# Altium integrated library TI_Logic_Specialty_Logic.IntLib: 2504 symbols (part 78 of 81)
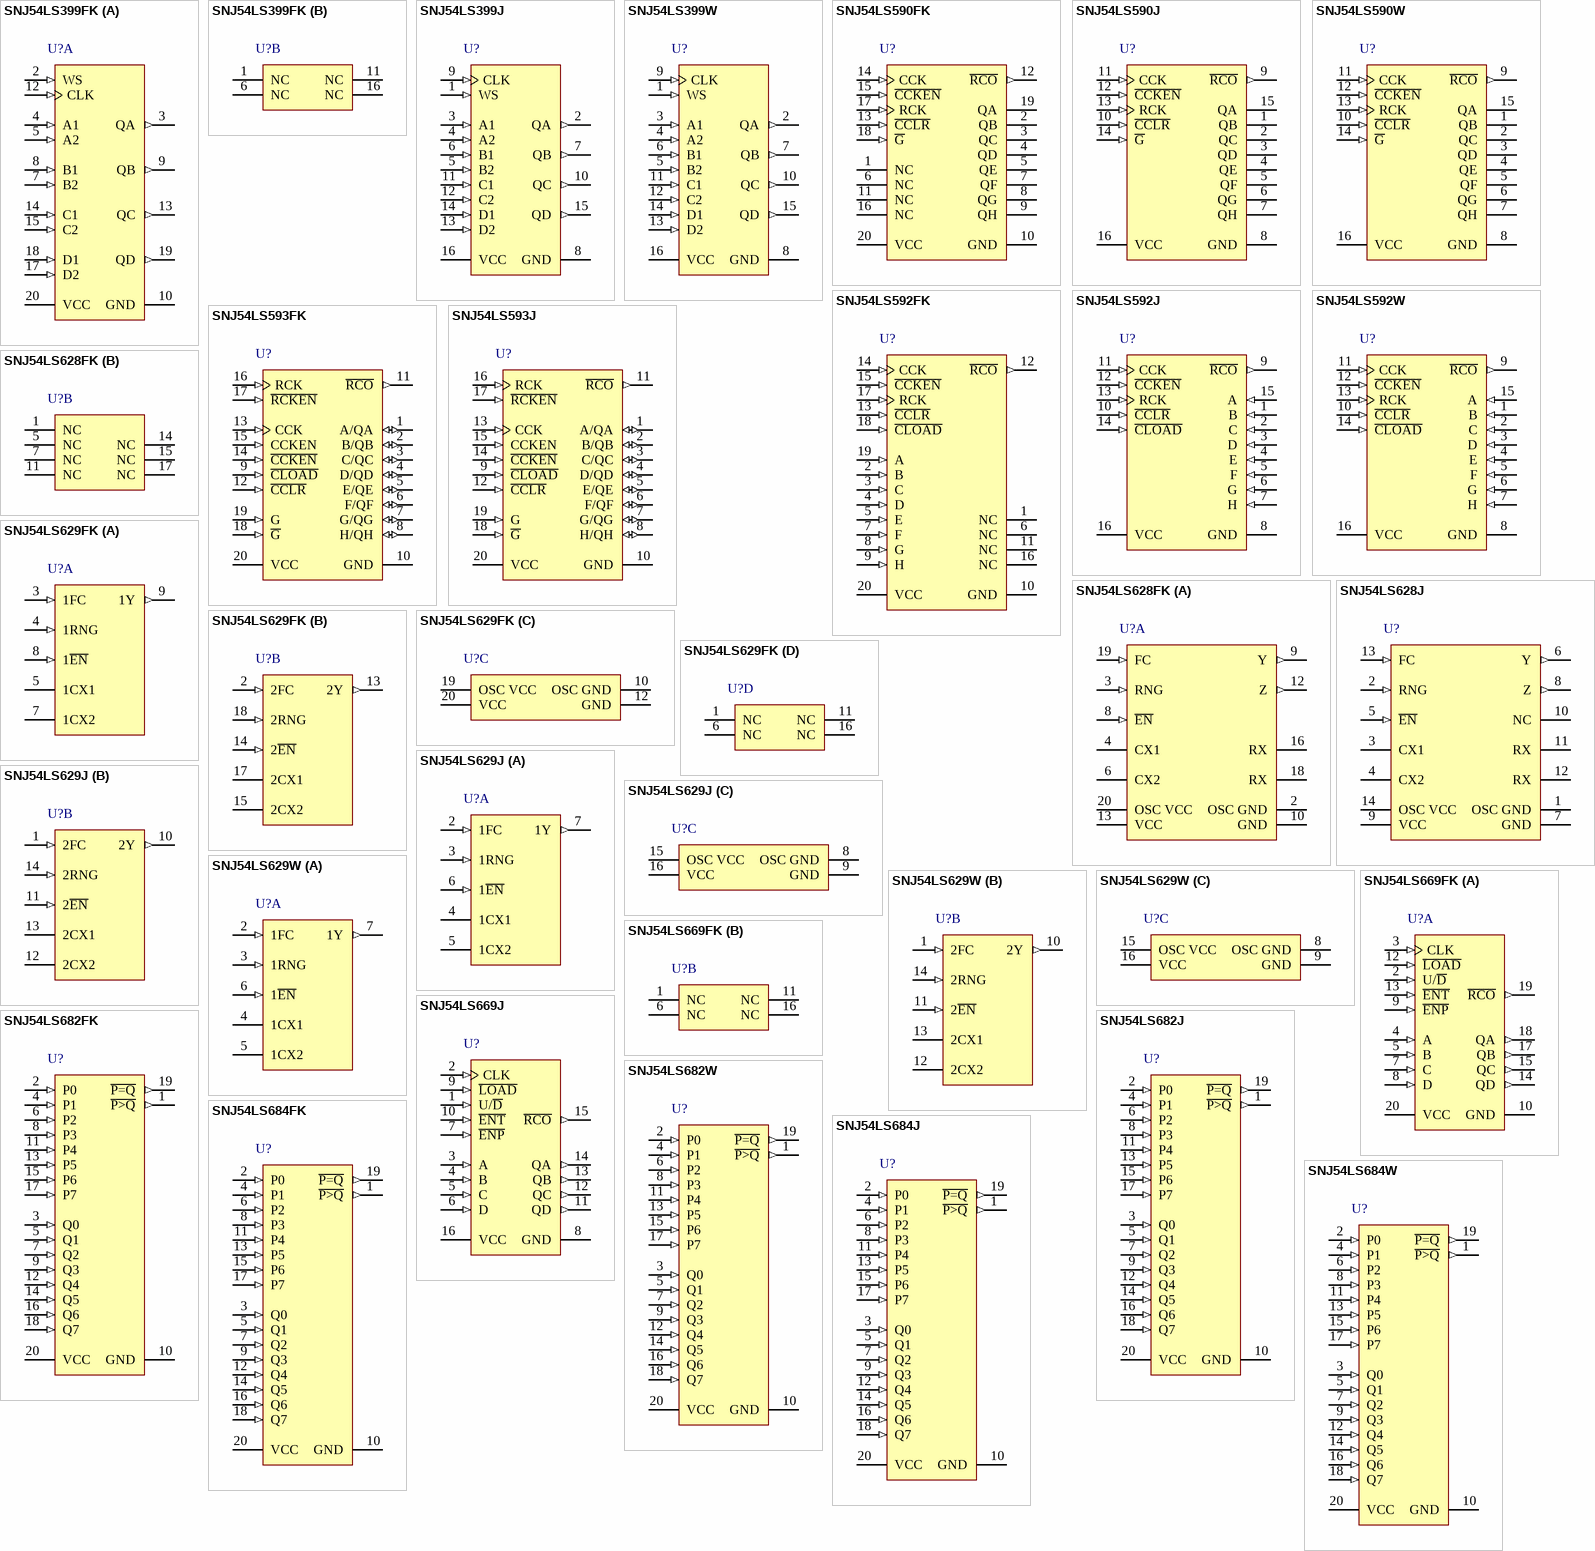
[diagram p181: symbols SNJ54LS399FK to SNJ54LS684W]

## SNJ54LS682FK
designator U?
8-Bit Identity/Magnitude Comparators, FK0020A, TUBE; Generic Part Number: SN54LS682; Manufacturer: Texas Instruments; PartNumber: SNJ54LS682FK; VCC(Min)(V): 4.85; VCC(Max)(V): 5.25; Output Type: TTL; ICC @ Nom Voltage(Max)(mA): 70; Bits(#): 8; Rating: Military; Technology Family: LS; Output Drive (IOL/IOH)(Max)(mA): 24/-0.4; tpd @ Nom Voltage(Max)(ns): 30; DatasheetVersion: SDLS008; PackageReference: FK0020A; Input Type: TTL; Operating Temperature Range(C): -55 to 125; Code_JEDEC: MS-004; ComponentLink1Description: Manufacturer URL; ComponentLink1URL: http://www.ti.com/; ComponentLink2Description: Datasheet; ComponentLink2URL: http://www.ti.com/lit/ds/symlink/sn54ls682.pdf; ComponentLink3Description: Package Specification; ComponentLink3URL: http://www.ti.com/lit/ml/mlcc006d/mlcc006d.pdf
footprint FK0020A_N (LCC, 20-Leads, Body 8.9x8.9mm, Pitch 1.27mm, IPC Medium Density)
footprint FK0020A_M (LCC, 20-Leads, Body 8.9x8.9mm, Pitch 1.27mm, IPC Low Density)
footprint FK0020A_L (LCC, 20-Leads, Body 8.9x8.9mm, Pitch 1.27mm, IPC High Density)
pins: 1 ~{P>Q} (out), 2 P0 (in), 3 Q0 (in), 4 P1 (in), 5 Q1 (in), 6 P2 (in), 7 Q2 (in), 8 P3 (in), 9 Q3 (in), 10 GND (power), 11 P4 (in), 12 Q4 (in), 13 P5 (in), 14 Q5 (in), 15 P6 (in), 16 Q6 (in), 17 P7 (in), 18 Q7 (in), 19 ~{P=Q} (out), 20 VCC (power)

## SNJ54LS682J
designator U?
8-Bit Identity/Magnitude Comparators, J0020A, TUBE; Generic Part Number: SN54LS682; Manufacturer: Texas Instruments; PartNumber: SNJ54LS682J; VCC(Min)(V): 4.85; VCC(Max)(V): 5.25; Output Type: TTL; ICC @ Nom Voltage(Max)(mA): 70; Bits(#): 8; Rating: Military; Technology Family: LS; Output Drive (IOL/IOH)(Max)(mA): 24/-0.4; tpd @ Nom Voltage(Max)(ns): 30; DatasheetVersion: SDLS008; PackageReference: J0020A; Input Type: TTL; Operating Temperature Range(C): -55 to 125; ComponentLink1Description: Manufacturer URL; ComponentLink1URL: http://www.ti.com/; ComponentLink2Description: Datasheet; ComponentLink2URL: http://www.ti.com/lit/ds/symlink/sn54ls682.pdf
footprint J0020A (DIP, 20-Leads, Body 26.9x7.2mm, Pitch 2.54mm)
pins: 1 ~{P>Q} (out), 2 P0 (in), 3 Q0 (in), 4 P1 (in), 5 Q1 (in), 6 P2 (in), 7 Q2 (in), 8 P3 (in), 9 Q3 (in), 10 GND (power), 11 P4 (in), 12 Q4 (in), 13 P5 (in), 14 Q5 (in), 15 P6 (in), 16 Q6 (in), 17 P7 (in), 18 Q7 (in), 19 ~{P=Q} (out), 20 VCC (power)

## SNJ54LS682W
designator U?
8-Bit Identity/Magnitude Comparators, W0020A, TUBE; Generic Part Number: SN54LS682; Manufacturer: Texas Instruments; PartNumber: SNJ54LS682W; VCC(Min)(V): 4.85; VCC(Max)(V): 5.25; Output Type: TTL; ICC @ Nom Voltage(Max)(mA): 70; Bits(#): 8; Rating: Military; Technology Family: LS; Output Drive (IOL/IOH)(Max)(mA): 24/-0.4; tpd @ Nom Voltage(Max)(ns): 30; DatasheetVersion: SDLS008; PackageReference: W0020A; Input Type: TTL; Operating Temperature Range(C): -55 to 125; ComponentLink1Description: Manufacturer URL; ComponentLink1URL: http://www.ti.com/; ComponentLink2Description: Datasheet; ComponentLink2URL: http://www.ti.com/lit/ds/symlink/sn54ls682.pdf
footprint W0020A_N (CFP, 20-Leads, Body 13.72x7.62mm, Pitch 1.27mm, IPC Medium Density)
footprint W0020A_M (CFP, 20-Leads, Body 13.72x7.62mm, Pitch 1.27mm, IPC Low Density)
footprint W0020A_L (CFP, 20-Leads, Body 13.72x7.62mm, Pitch 1.27mm, IPC High Density)
pins: 1 ~{P>Q} (out), 2 P0 (in), 3 Q0 (in), 4 P1 (in), 5 Q1 (in), 6 P2 (in), 7 Q2 (in), 8 P3 (in), 9 Q3 (in), 10 GND (power), 11 P4 (in), 12 Q4 (in), 13 P5 (in), 14 Q5 (in), 15 P6 (in), 16 Q6 (in), 17 P7 (in), 18 Q7 (in), 19 ~{P=Q} (out), 20 VCC (power)

## SNJ54LS684FK
designator U?
8-Bit Identity/Magnitude Comparators, FK0020A, TUBE; Generic Part Number: SN54LS684; Manufacturer: Texas Instruments; PartNumber: SNJ54LS684FK; VCC(Min)(V): 4.85; VCC(Max)(V): 5.25; Output Type: TTL; ICC @ Nom Voltage(Max)(mA): 65; Bits(#): 8; Rating: Military; Technology Family: LS; Output Drive (IOL/IOH)(Max)(mA): 24/-0.4; tpd @ Nom Voltage(Max)(ns): 30; DatasheetVersion: SDLS008; PackageReference: FK0020A; Input Type: TTL; Operating Temperature Range(C): -55 to 125; Code_JEDEC: MS-004; ComponentLink1Description: Manufacturer URL; ComponentLink1URL: http://www.ti.com/; ComponentLink2Description: Datasheet; ComponentLink2URL: http://www.ti.com/lit/ds/symlink/sn54ls684.pdf; ComponentLink3Description: Package Specification; ComponentLink3URL: http://www.ti.com/lit/ml/mlcc006d/mlcc006d.pdf
footprint FK0020A_N (LCC, 20-Leads, Body 8.9x8.9mm, Pitch 1.27mm, IPC Medium Density)
footprint FK0020A_M (LCC, 20-Leads, Body 8.9x8.9mm, Pitch 1.27mm, IPC Low Density)
footprint FK0020A_L (LCC, 20-Leads, Body 8.9x8.9mm, Pitch 1.27mm, IPC High Density)
pins: 1 ~{P>Q} (out), 2 P0 (in), 3 Q0 (in), 4 P1 (in), 5 Q1 (in), 6 P2 (in), 7 Q2 (in), 8 P3 (in), 9 Q3 (in), 10 GND (power), 11 P4 (in), 12 Q4 (in), 13 P5 (in), 14 Q5 (in), 15 P6 (in), 16 Q6 (in), 17 P7 (in), 18 Q7 (in), 19 ~{P=Q} (out), 20 VCC (power)

## SNJ54LS684J
designator U?
8-Bit Identity/Magnitude Comparators, J0020A, TUBE; Generic Part Number: SN54LS684; Manufacturer: Texas Instruments; PartNumber: SNJ54LS684J; VCC(Min)(V): 4.85; VCC(Max)(V): 5.25; Output Type: TTL; ICC @ Nom Voltage(Max)(mA): 65; Bits(#): 8; Rating: Military; Technology Family: LS; Output Drive (IOL/IOH)(Max)(mA): 24/-0.4; tpd @ Nom Voltage(Max)(ns): 30; DatasheetVersion: SDLS008; PackageReference: J0020A; Input Type: TTL; Operating Temperature Range(C): -55 to 125; ComponentLink1Description: Manufacturer URL; ComponentLink1URL: http://www.ti.com/; ComponentLink2Description: Datasheet; ComponentLink2URL: http://www.ti.com/lit/ds/symlink/sn54ls684.pdf
footprint J0020A (DIP, 20-Leads, Body 26.9x7.2mm, Pitch 2.54mm)
pins: 1 ~{P>Q} (out), 2 P0 (in), 3 Q0 (in), 4 P1 (in), 5 Q1 (in), 6 P2 (in), 7 Q2 (in), 8 P3 (in), 9 Q3 (in), 10 GND (power), 11 P4 (in), 12 Q4 (in), 13 P5 (in), 14 Q5 (in), 15 P6 (in), 16 Q6 (in), 17 P7 (in), 18 Q7 (in), 19 ~{P=Q} (out), 20 VCC (power)

## SNJ54LS684W
designator U?
8-Bit Identity/Magnitude Comparators, W0020A, TUBE; Generic Part Number: SN54LS684; Manufacturer: Texas Instruments; PartNumber: SNJ54LS684W; VCC(Min)(V): 4.85; VCC(Max)(V): 5.25; Output Type: TTL; ICC @ Nom Voltage(Max)(mA): 65; Bits(#): 8; Rating: Military; Technology Family: LS; Output Drive (IOL/IOH)(Max)(mA): 24/-0.4; tpd @ Nom Voltage(Max)(ns): 30; DatasheetVersion: SDLS008; PackageReference: W0020A; Input Type: TTL; Operating Temperature Range(C): -55 to 125; ComponentLink1Description: Manufacturer URL; ComponentLink1URL: http://www.ti.com/; ComponentLink2Description: Datasheet; ComponentLink2URL: http://www.ti.com/lit/ds/symlink/sn54ls684.pdf
footprint W0020A_N (CFP, 20-Leads, Body 13.72x7.62mm, Pitch 1.27mm, IPC Medium Density)
footprint W0020A_M (CFP, 20-Leads, Body 13.72x7.62mm, Pitch 1.27mm, IPC Low Density)
footprint W0020A_L (CFP, 20-Leads, Body 13.72x7.62mm, Pitch 1.27mm, IPC High Density)
pins: 1 ~{P>Q} (out), 2 P0 (in), 3 Q0 (in), 4 P1 (in), 5 Q1 (in), 6 P2 (in), 7 Q2 (in), 8 P3 (in), 9 Q3 (in), 10 GND (power), 11 P4 (in), 12 Q4 (in), 13 P5 (in), 14 Q5 (in), 15 P6 (in), 16 Q6 (in), 17 P7 (in), 18 Q7 (in), 19 ~{P=Q} (out), 20 VCC (power)

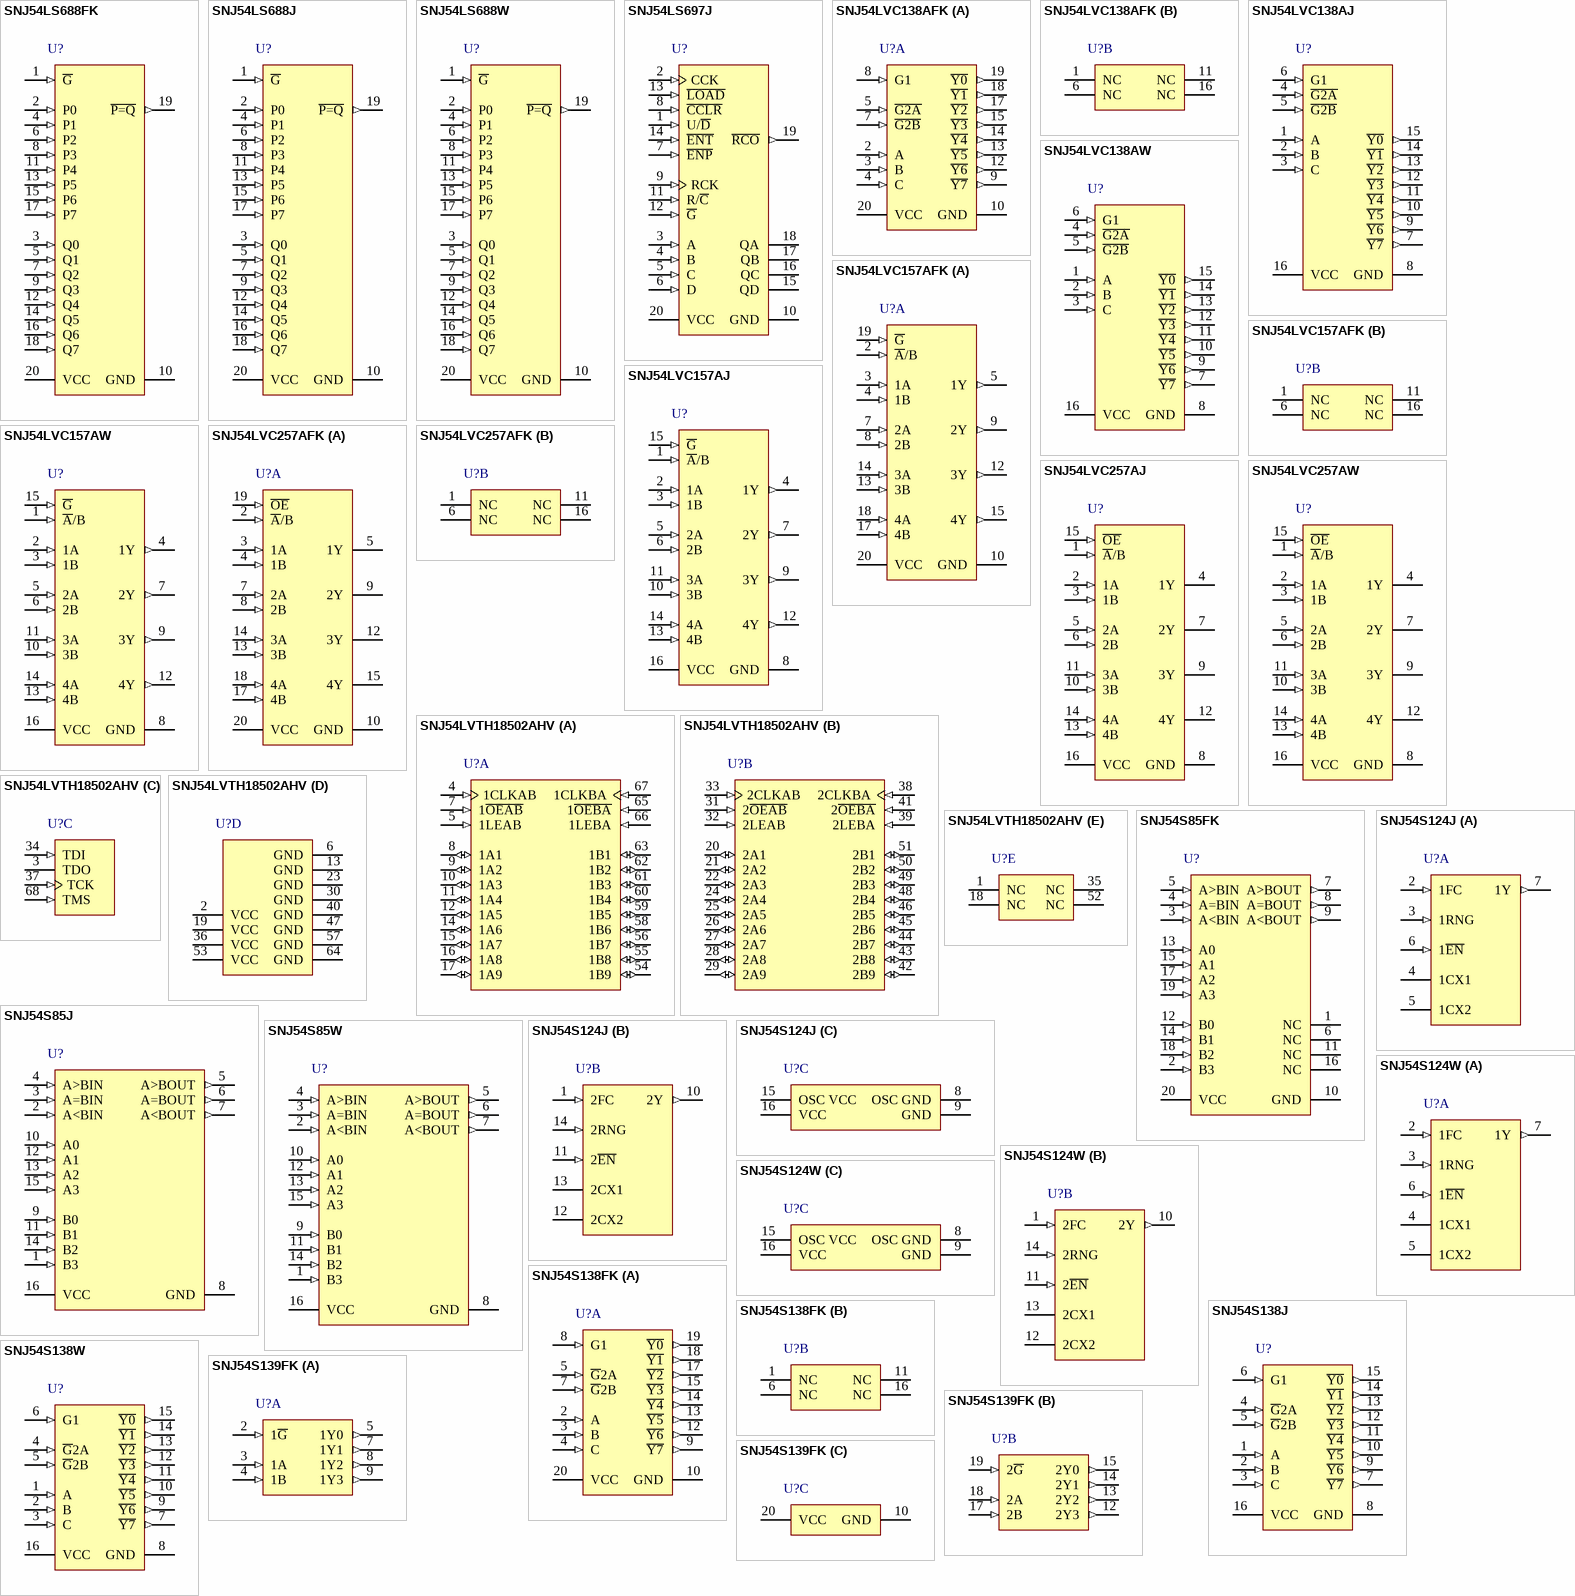
[diagram p98: symbols SNJ54LS688FK to SNJ54S139FK]

## SNJ54LS688FK
designator U?
8-Bit Identity/Magnitude Comparators (P=Q) with Enable, FK0020A, TUBE; Generic Part Number: SN54LS688; Manufacturer: Texas Instruments; PartNumber: SNJ54LS688FK; VCC(Min)(V): 4.85; VCC(Max)(V): 5.25; Output Type: TTL; ICC @ Nom Voltage(Max)(mA): 65; Bits(#): 8; Rating: Military; Technology Family: LS; Output Drive (IOL/IOH)(Max)(mA): 24/-0.4; tpd @ Nom Voltage(Max)(ns): 23; DatasheetVersion: SDLS008; PackageReference: FK0020A; Input Type: TTL; Operating Temperature Range(C): -55 to 125; Code_JEDEC: MS-004; ComponentLink1Description: Manufacturer URL; ComponentLink1URL: http://www.ti.com/; ComponentLink2Description: Datasheet; ComponentLink2URL: http://www.ti.com/lit/ds/symlink/sn54ls688.pdf; ComponentLink3Description: Package Specification; ComponentLink3URL: http://www.ti.com/lit/ml/mlcc006d/mlcc006d.pdf
footprint FK0020A_N (LCC, 20-Leads, Body 8.9x8.9mm, Pitch 1.27mm, IPC Medium Density)
footprint FK0020A_M (LCC, 20-Leads, Body 8.9x8.9mm, Pitch 1.27mm, IPC Low Density)
footprint FK0020A_L (LCC, 20-Leads, Body 8.9x8.9mm, Pitch 1.27mm, IPC High Density)
pins: 1 ~{G} (in), 2 P0 (in), 3 Q0 (in), 4 P1 (in), 5 Q1 (in), 6 P2 (in), 7 Q2 (in), 8 P3 (in), 9 Q3 (in), 10 GND (power), 11 P4 (in), 12 Q4 (in), 13 P5 (in), 14 Q5 (in), 15 P6 (in), 16 Q6 (in), 17 P7 (in), 18 Q7 (in), 19 ~{P=Q} (out), 20 VCC (power)

## SNJ54LS688J
designator U?
8-Bit Identity/Magnitude Comparators (P=Q) with Enable, J0020A, TUBE; Generic Part Number: SN54LS688; Manufacturer: Texas Instruments; PartNumber: SNJ54LS688J; VCC(Min)(V): 4.85; VCC(Max)(V): 5.25; Output Type: TTL; ICC @ Nom Voltage(Max)(mA): 65; Bits(#): 8; Rating: Military; Technology Family: LS; Output Drive (IOL/IOH)(Max)(mA): 24/-0.4; tpd @ Nom Voltage(Max)(ns): 23; DatasheetVersion: SDLS008; PackageReference: J0020A; Input Type: TTL; Operating Temperature Range(C): -55 to 125; ComponentLink1Description: Manufacturer URL; ComponentLink1URL: http://www.ti.com/; ComponentLink2Description: Datasheet; ComponentLink2URL: http://www.ti.com/lit/ds/symlink/sn54ls688.pdf
footprint J0020A (DIP, 20-Leads, Body 26.9x7.2mm, Pitch 2.54mm)
pins: 1 ~{G} (in), 2 P0 (in), 3 Q0 (in), 4 P1 (in), 5 Q1 (in), 6 P2 (in), 7 Q2 (in), 8 P3 (in), 9 Q3 (in), 10 GND (power), 11 P4 (in), 12 Q4 (in), 13 P5 (in), 14 Q5 (in), 15 P6 (in), 16 Q6 (in), 17 P7 (in), 18 Q7 (in), 19 ~{P=Q} (out), 20 VCC (power)

## SNJ54LS688W
designator U?
8-Bit Identity/Magnitude Comparators (P=Q) with Enable, W0020A, TUBE; Generic Part Number: SN54LS688; Manufacturer: Texas Instruments; PartNumber: SNJ54LS688W; VCC(Min)(V): 4.85; VCC(Max)(V): 5.25; Output Type: TTL; ICC @ Nom Voltage(Max)(mA): 65; Bits(#): 8; Rating: Military; Technology Family: LS; Output Drive (IOL/IOH)(Max)(mA): 24/-0.4; tpd @ Nom Voltage(Max)(ns): 23; DatasheetVersion: SDLS008; PackageReference: W0020A; Input Type: TTL; Operating Temperature Range(C): -55 to 125; ComponentLink1Description: Manufacturer URL; ComponentLink1URL: http://www.ti.com/; ComponentLink2Description: Datasheet; ComponentLink2URL: http://www.ti.com/lit/ds/symlink/sn54ls688.pdf
footprint W0020A_N (CFP, 20-Leads, Body 13.72x7.62mm, Pitch 1.27mm, IPC Medium Density)
footprint W0020A_M (CFP, 20-Leads, Body 13.72x7.62mm, Pitch 1.27mm, IPC Low Density)
footprint W0020A_L (CFP, 20-Leads, Body 13.72x7.62mm, Pitch 1.27mm, IPC High Density)
pins: 1 ~{G} (in), 2 P0 (in), 3 Q0 (in), 4 P1 (in), 5 Q1 (in), 6 P2 (in), 7 Q2 (in), 8 P3 (in), 9 Q3 (in), 10 GND (power), 11 P4 (in), 12 Q4 (in), 13 P5 (in), 14 Q5 (in), 15 P6 (in), 16 Q6 (in), 17 P7 (in), 18 Q7 (in), 19 ~{P=Q} (out), 20 VCC (power)

## SNJ54LS697J
designator U?
Synchronous Up/Down Counters With Output Registers And Multiplexed 3-State Outpu, J0020A, TUBE; Generic Part Number: SN54LS697; Manufacturer: Texas Instruments; PartNumber: SNJ54LS697J; VCC(Min)(V): 4.75; VCC(Max)(V): 5.25; Inputs: 1; ICC @ Nom Voltage(Max)(mA): 70; Bits(#): 4; F @ Nom Voltage(Max)(Mhz): 35; Rating: Military; Technology Family: LS; Output Drive (IOL/IOH)(Max)(mA): 24/-2.6; tpd @ Nom Voltage(Max)(ns): 40; DatasheetVersion: SDLS199; PackageReference: J0020A; Function: Counter; Operating Temperature Range(C): -55 to 125; Type: Binary; ComponentLink1Description: Manufacturer URL; ComponentLink1URL: http://www.ti.com/; ComponentLink2Description: Datasheet; ComponentLink2URL: http://www.ti.com/lit/ds/symlink/sn54ls697.pdf; ComponentLink3Description: Package Specification; ComponentLink3URL: http://www.ti.com/lit/ml/mcer002d/mcer002d.pdf
footprint J0020A (DIP, 20-Leads, Body 26.9x7.2mm, Pitch 2.54mm)
pins: 1 U/~{D} (in), 2 CCK (in), 3 A (in), 4 B (in), 5 C (in), 6 D (in), 7 ~{ENP} (in), 8 ~{CCLR} (in), 9 RCK (in), 10 GND (power), 11 R/~{C} (in), 12 ~{G} (in), 13 ~{LOAD} (in), 14 ~{ENT} (in), 15 QD (hiz), 16 QC (hiz), 17 QB (hiz), 18 QA (hiz), 19 ~{RCO} (out), 20 VCC (power)

## SNJ54LVC138AFK
designator U?
3-Line To 8-Line Decoder/Demultiplexer, FK0020A, TUBE; Generic Part Number: SN54LVC138A; Manufacturer: Texas Instruments; PartNumber: SNJ54LVC138AFK; VCC(Min)(V): 2; VCC(Max)(V): 3.6; ICC @ Nom Voltage(Max)(mA): 0.01; F @ Nom Voltage(Max)(Mhz): 100; Rating: Military; Technology Family: LVC; Voltage(Nom)(V): 2.7,3.3; Schmitt Trigger: No; Output Drive (IOL/IOH)(Max)(mA): 24/-24; tpd @ Nom Voltage(Max)(ns): 7.9,6.7; DatasheetVersion: SCAS291V; PackageReference: FK0020A; Operating Temperature Range(C): -55 to 125; Code_JEDEC: MS-004; ComponentLink1Description: Manufacturer URL; ComponentLink1URL: http://www.ti.com/; ComponentLink2Description: Datasheet; ComponentLink2URL: http://www.ti.com/lit/ds/symlink/sn54lvc138a.pdf; ComponentLink3Description: Package Specification; ComponentLink3URL: http://www.ti.com/lit/ml/mlcc006d/mlcc006d.pdf
footprint FK0020A_N (LCC, 20-Leads, Body 8.9x8.9mm, Pitch 1.27mm, IPC Medium Density)
footprint FK0020A_M (LCC, 20-Leads, Body 8.9x8.9mm, Pitch 1.27mm, IPC Low Density)
footprint FK0020A_L (LCC, 20-Leads, Body 8.9x8.9mm, Pitch 1.27mm, IPC High Density)
part A pins: 2 A (in), 3 B (in), 4 C (in), 5 ~{G2A} (in), 7 ~{G2B} (in), 8 G1 (in), 9 ~{Y7} (out), 10 GND (power), 12 ~{Y6} (out), 13 ~{Y5} (out), 14 ~{Y4} (out), 15 ~{Y3} (out), 17 ~{Y2} (out), 18 ~{Y1} (out), 19 ~{Y0} (out), 20 VCC (power)
part B pins: 1 NC, 6 NC, 11 NC, 16 NC

## SNJ54LVC138AJ
designator U?
3-Line To 8-Line Decoder/Demultiplexer, J0016A, TUBE; Generic Part Number: SN54LVC138A; Manufacturer: Texas Instruments; PartNumber: SNJ54LVC138AJ; VCC(Min)(V): 2; VCC(Max)(V): 3.6; ICC @ Nom Voltage(Max)(mA): 0.01; F @ Nom Voltage(Max)(Mhz): 100; Rating: Military; Technology Family: LVC; Voltage(Nom)(V): 2.7,3.3; Schmitt Trigger: No; Output Drive (IOL/IOH)(Max)(mA): 24/-24; tpd @ Nom Voltage(Max)(ns): 7.9,6.7; DatasheetVersion: SCAS291V; PackageReference: J0016A; Operating Temperature Range(C): -55 to 125; ComponentLink1Description: Manufacturer URL; ComponentLink1URL: http://www.ti.com/; ComponentLink2Description: Datasheet; ComponentLink2URL: http://www.ti.com/lit/ds/symlink/sn54lvc138a.pdf; ComponentLink3Description: Package Specification; ComponentLink3URL: http://www.ti.com/lit/ml/mcer002d/mcer002d.pdf
footprint J0016A (DIP, 16-Leads, Body 21.35x7.2mm, Pitch 2.54mm)
pins: 1 A (in), 2 B (in), 3 C (in), 4 ~{G2A} (in), 5 ~{G2B} (in), 6 G1 (in), 7 ~{Y7} (out), 8 GND (power), 9 ~{Y6} (out), 10 ~{Y5} (out), 11 ~{Y4} (out), 12 ~{Y3} (out), 13 ~{Y2} (out), 14 ~{Y1} (out), 15 ~{Y0} (out), 16 VCC (power)

## SNJ54LVC138AW
designator U?
3-Line To 8-Line Decoder/Demultiplexer, W0016A, TUBE; Generic Part Number: SN54LVC138A; Manufacturer: Texas Instruments; PartNumber: SNJ54LVC138AW; VCC(Min)(V): 2; VCC(Max)(V): 3.6; ICC @ Nom Voltage(Max)(mA): 0.01; F @ Nom Voltage(Max)(Mhz): 100; Rating: Military; Technology Family: LVC; Voltage(Nom)(V): 2.7,3.3; Schmitt Trigger: No; Output Drive (IOL/IOH)(Max)(mA): 24/-24; tpd @ Nom Voltage(Max)(ns): 7.9,6.7; DatasheetVersion: SCAS291V; PackageReference: W0016A; Operating Temperature Range(C): -55 to 125; ComponentLink1Description: Manufacturer URL; ComponentLink1URL: http://www.ti.com/; ComponentLink2Description: Datasheet; ComponentLink2URL: http://www.ti.com/lit/ds/symlink/sn54lvc138a.pdf; ComponentLink3Description: Package Specification; ComponentLink3URL: http://www.ti.com/lit/ml/mcfp004c/mcfp004c.pdf
footprint W0016A_N (CFP, 16-Leads, Body 10.92x7.24mm, Pitch 1.27mm, IPC Medium Density)
footprint W0016A_M (CFP, 16-Leads, Body 10.92x7.24mm, Pitch 1.27mm, IPC Low Density)
footprint W0016A_L (CFP, 16-Leads, Body 10.92x7.24mm, Pitch 1.27mm, IPC High Density)
pins: 1 A (in), 2 B (in), 3 C (in), 4 ~{G2A} (in), 5 ~{G2B} (in), 6 G1 (in), 7 ~{Y7} (out), 8 GND (power), 9 ~{Y6} (out), 10 ~{Y5} (out), 11 ~{Y4} (out), 12 ~{Y3} (out), 13 ~{Y2} (out), 14 ~{Y1} (out), 15 ~{Y0} (out), 16 VCC (power)

## SNJ54LVC157AFK
designator U?
Quadruple 2-Line To 1-Line Data Selector / Multiplexer, FK0020A, TUBE; Generic Part Number: SN54LVC157A; Manufacturer: Texas Instruments; PartNumber: SNJ54LVC157AFK; VCC(Min)(V): 2; VCC(Max)(V): 3.6; ICC @ Nom Voltage(Max)(mA): 0.01; F @ Nom Voltage(Max)(Mhz): 100; Rating: Military; Technology Family: LVC; Voltage(Nom)(V): 2.7,3.3; Schmitt Trigger: No; Output Drive (IOL/IOH)(Max)(mA): 24/-24; tpd @ Nom Voltage(Max)(ns): 6.2,5.4; DatasheetVersion: SCAS292Q; PackageReference: FK0020A; Operating Temperature Range(C): -55 to 125; Code_JEDEC: MS-004; ComponentLink1Description: Manufacturer URL; ComponentLink1URL: http://www.ti.com/; ComponentLink2Description: Datasheet; ComponentLink2URL: http://www.ti.com/lit/ds/symlink/sn54lvc157a.pdf; ComponentLink3Description: Package Specification; ComponentLink3URL: http://www.ti.com/lit/ml/mlcc006d/mlcc006d.pdf
footprint FK0020A_N (LCC, 20-Leads, Body 8.9x8.9mm, Pitch 1.27mm, IPC Medium Density)
footprint FK0020A_M (LCC, 20-Leads, Body 8.9x8.9mm, Pitch 1.27mm, IPC Low Density)
footprint FK0020A_L (LCC, 20-Leads, Body 8.9x8.9mm, Pitch 1.27mm, IPC High Density)
part A pins: 2 ~{A}/B (in), 3 1A (in), 4 1B (in), 5 1Y (out), 7 2A (in), 8 2B (in), 9 2Y (out), 10 GND (power), 12 3Y (out), 13 3B (in), 14 3A (in), 15 4Y (out), 17 4B (in), 18 4A (in), 19 ~{G} (in), 20 VCC (power)
part B pins: 1 NC, 6 NC, 11 NC, 16 NC

## SNJ54LVC157AJ
designator U?
Quadruple 2-Line To 1-Line Data Selector / Multiplexer, J0016A, TUBE; Generic Part Number: SN54LVC157A; Manufacturer: Texas Instruments; PartNumber: SNJ54LVC157AJ; VCC(Min)(V): 2; VCC(Max)(V): 3.6; ICC @ Nom Voltage(Max)(mA): 0.01; F @ Nom Voltage(Max)(Mhz): 100; Rating: Military; Technology Family: LVC; Voltage(Nom)(V): 2.7,3.3; Schmitt Trigger: No; Output Drive (IOL/IOH)(Max)(mA): 24/-24; tpd @ Nom Voltage(Max)(ns): 6.2,5.4; DatasheetVersion: SCAS292Q; PackageReference: J0016A; Operating Temperature Range(C): -55 to 125; ComponentLink1Description: Manufacturer URL; ComponentLink1URL: http://www.ti.com/; ComponentLink2Description: Datasheet; ComponentLink2URL: http://www.ti.com/lit/ds/symlink/sn54lvc157a.pdf; ComponentLink3Description: Package Specification; ComponentLink3URL: http://www.ti.com/lit/ml/mcer002d/mcer002d.pdf
footprint J0016A (DIP, 16-Leads, Body 21.35x7.2mm, Pitch 2.54mm)
pins: 1 ~{A}/B (in), 2 1A (in), 3 1B (in), 4 1Y (out), 5 2A (in), 6 2B (in), 7 2Y (out), 8 GND (power), 9 3Y (out), 10 3B (in), 11 3A (in), 12 4Y (out), 13 4B (in), 14 4A (in), 15 ~{G} (in), 16 VCC (power)

## SNJ54LVC157AW
designator U?
Quadruple 2-Line To 1-Line Data Selector / Multiplexer, W0016A, TUBE; Generic Part Number: SN54LVC157A; Manufacturer: Texas Instruments; PartNumber: SNJ54LVC157AW; VCC(Min)(V): 2; VCC(Max)(V): 3.6; ICC @ Nom Voltage(Max)(mA): 0.01; F @ Nom Voltage(Max)(Mhz): 100; Rating: Military; Technology Family: LVC; Voltage(Nom)(V): 2.7,3.3; Schmitt Trigger: No; Output Drive (IOL/IOH)(Max)(mA): 24/-24; tpd @ Nom Voltage(Max)(ns): 6.2,5.4; DatasheetVersion: SCAS292Q; PackageReference: W0016A; Operating Temperature Range(C): -55 to 125; ComponentLink1Description: Manufacturer URL; ComponentLink1URL: http://www.ti.com/; ComponentLink2Description: Datasheet; ComponentLink2URL: http://www.ti.com/lit/ds/symlink/sn54lvc157a.pdf; ComponentLink3Description: Package Specification; ComponentLink3URL: http://www.ti.com/lit/ml/mcfp004c/mcfp004c.pdf
footprint W0016A_N (CFP, 16-Leads, Body 10.92x7.24mm, Pitch 1.27mm, IPC Medium Density)
footprint W0016A_M (CFP, 16-Leads, Body 10.92x7.24mm, Pitch 1.27mm, IPC Low Density)
footprint W0016A_L (CFP, 16-Leads, Body 10.92x7.24mm, Pitch 1.27mm, IPC High Density)
pins: 1 ~{A}/B (in), 2 1A (in), 3 1B (in), 4 1Y (out), 5 2A (in), 6 2B (in), 7 2Y (out), 8 GND (power), 9 3Y (out), 10 3B (in), 11 3A (in), 12 4Y (out), 13 4B (in), 14 4A (in), 15 ~{G} (in), 16 VCC (power)

## SNJ54LVC257AFK
designator U?
Quadruple 2-Line To 1-Line Data Selector/Multiplexer With 3-State Outputs, FK0020A, TUBE; Generic Part Number: SN54LVC257A; Manufacturer: Texas Instruments; PartNumber: SNJ54LVC257AFK; VCC(Min)(V): 2; VCC(Max)(V): 3.6; ICC @ Nom Voltage(Max)(mA): 0.01; F @ Nom Voltage(Max)(Mhz): 100; Rating: Military; Technology Family: LVC; Voltage(Nom)(V): 2.7,3.3; Schmitt Trigger: No; Output Drive (IOL/IOH)(Max)(mA): 24/-24; tpd @ Nom Voltage(Max)(ns): 5.4,4.6; DatasheetVersion: SCAS294O; PackageReference: FK0020A; Operating Temperature Range(C): -55 to 125; Code_JEDEC: MS-004; ComponentLink1Description: Manufacturer URL; ComponentLink1URL: http://www.ti.com/; ComponentLink2Description: Datasheet; ComponentLink2URL: http://www.ti.com/lit/ds/symlink/sn54lvc257a.pdf; ComponentLink3Description: Package Specification; ComponentLink3URL: http://www.ti.com/lit/ml/mlcc006d/mlcc006d.pdf
footprint FK0020A_N (LCC, 20-Leads, Body 8.9x8.9mm, Pitch 1.27mm, IPC Medium Density)
footprint FK0020A_M (LCC, 20-Leads, Body 8.9x8.9mm, Pitch 1.27mm, IPC Low Density)
footprint FK0020A_L (LCC, 20-Leads, Body 8.9x8.9mm, Pitch 1.27mm, IPC High Density)
part A pins: 2 ~{A}/B (in), 3 1A (in), 4 1B (in), 5 1Y (hiz), 7 2A (in), 8 2B (in), 9 2Y (hiz), 10 GND (power), 12 3Y (hiz), 13 3B (in), 14 3A (in), 15 4Y (hiz), 17 4B (in), 18 4A (in), 19 ~{OE} (in), 20 VCC (power)
part B pins: 1 NC, 6 NC, 11 NC, 16 NC

## SNJ54LVC257AJ
designator U?
Quadruple 2-Line To 1-Line Data Selector/Multiplexer With 3-State Outputs, J0016A, TUBE; Generic Part Number: SN54LVC257A; Manufacturer: Texas Instruments; PartNumber: SNJ54LVC257AJ; VCC(Min)(V): 2; VCC(Max)(V): 3.6; ICC @ Nom Voltage(Max)(mA): 0.01; F @ Nom Voltage(Max)(Mhz): 100; Rating: Military; Technology Family: LVC; Voltage(Nom)(V): 2.7,3.3; Schmitt Trigger: No; Output Drive (IOL/IOH)(Max)(mA): 24/-24; tpd @ Nom Voltage(Max)(ns): 5.4,4.6; DatasheetVersion: SCAS294O; PackageReference: J0016A; Operating Temperature Range(C): -55 to 125; ComponentLink1Description: Manufacturer URL; ComponentLink1URL: http://www.ti.com/; ComponentLink2Description: Datasheet; ComponentLink2URL: http://www.ti.com/lit/ds/symlink/sn54lvc257a.pdf; ComponentLink3Description: Package Specification; ComponentLink3URL: http://www.ti.com/lit/ml/mcer002d/mcer002d.pdf
footprint J0016A (DIP, 16-Leads, Body 21.35x7.2mm, Pitch 2.54mm)
pins: 1 ~{A}/B (in), 2 1A (in), 3 1B (in), 4 1Y (hiz), 5 2A (in), 6 2B (in), 7 2Y (hiz), 8 GND (power), 9 3Y (hiz), 10 3B (in), 11 3A (in), 12 4Y (hiz), 13 4B (in), 14 4A (in), 15 ~{OE} (in), 16 VCC (power)

## SNJ54LVC257AW
designator U?
Quadruple 2-Line To 1-Line Data Selector/Multiplexer With 3-State Outputs, W0016A, TUBE; Generic Part Number: SN54LVC257A; Manufacturer: Texas Instruments; PartNumber: SNJ54LVC257AW; VCC(Min)(V): 2; VCC(Max)(V): 3.6; ICC @ Nom Voltage(Max)(mA): 0.01; F @ Nom Voltage(Max)(Mhz): 100; Rating: Military; Technology Family: LVC; Voltage(Nom)(V): 2.7,3.3; Schmitt Trigger: No; Output Drive (IOL/IOH)(Max)(mA): 24/-24; tpd @ Nom Voltage(Max)(ns): 5.4,4.6; DatasheetVersion: SCAS294O; PackageReference: W0016A; Operating Temperature Range(C): -55 to 125; ComponentLink1Description: Manufacturer URL; ComponentLink1URL: http://www.ti.com/; ComponentLink2Description: Datasheet; ComponentLink2URL: http://www.ti.com/lit/ds/symlink/sn54lvc257a.pdf; ComponentLink3Description: Package Specification; ComponentLink3URL: http://www.ti.com/lit/ml/mcfp004c/mcfp004c.pdf
footprint W0016A_N (CFP, 16-Leads, Body 10.92x7.24mm, Pitch 1.27mm, IPC Medium Density)
footprint W0016A_M (CFP, 16-Leads, Body 10.92x7.24mm, Pitch 1.27mm, IPC Low Density)
footprint W0016A_L (CFP, 16-Leads, Body 10.92x7.24mm, Pitch 1.27mm, IPC High Density)
pins: 1 ~{A}/B (in), 2 1A (in), 3 1B (in), 4 1Y (hiz), 5 2A (in), 6 2B (in), 7 2Y (hiz), 8 GND (power), 9 3Y (hiz), 10 3B (in), 11 3A (in), 12 4Y (hiz), 13 4B (in), 14 4A (in), 15 ~{OE} (in), 16 VCC (power)

## SNJ54LVTH18502AHV
designator U?
3.3-V ABT Scan Test Devices With 18-Bit Universal Bus Transceivers, HV0068A, TUBE; Generic Part Number: SN54LVTH18502A; Manufacturer: Texas Instruments; PartNumber: SNJ54LVTH18502AHV; VCC(Min)(V): 2.7; VCC(Max)(V): 3.6; Output Type: TTL; ICC @ Nom Voltage(Max)(mA): 24; Bits(#): 18; Rating: Military; Technology Family: LVT; Output Drive (IOL/IOH)(Max)(mA): 64/-32; Output Logic: True; tpd @ Nom Voltage(Max)(ns): 4.9; DatasheetVersion: SCBS668C; PackageReference: HV0068A; Input Type: TTL; Operating Temperature Range(C): -55 to 125; ComponentLink1Description: Manufacturer URL; ComponentLink1URL: http://www.ti.com/; ComponentLink2Description: Datasheet; ComponentLink2URL: http://www.ti.com/lit/ds/symlink/sn54lvth18502a.pdf
footprint HV0068A_N (CQFP, 68-Leads, Body 17.46x17.46mm, Pitch 0.64mm, IPC Medium Density)
footprint HV0068A_M (CQFP, 68-Leads, Body 17.46x17.46mm, Pitch 0.64mm, IPC Low Density)
footprint HV0068A_L (CQFP, 68-Leads, Body 17.46x17.46mm, Pitch 0.64mm, IPC High Density)
part A pins: 4 1CLKAB (in) "Normal-function clock inputs. See function table for normal-mode logic.", 5 1LEAB (in) "Normal-function latch enables. See function table for normal-mode logic", 7 1~{OEAB} (in) "Normal-function output enables. See function table for normal-mode logic.", 8 1A1 (io) "Normal-function A-bus I/O ports. See function table for normal-mode logic.", 9 1A2 (io) "Normal-function A-bus I/O ports. See function table for normal-mode logic.", 10 1A3 (io) "Normal-function A-bus I/O ports. See function table for normal-mode logic.", 11 1A4 (io) "Normal-function A-bus I/O ports. See function table for normal-mode logic.", 12 1A5 (io) "Normal-function A-bus I/O ports. See function table for normal-mode logic.", 14 1A6 (io) "Normal-function A-bus I/O ports. See function table for normal-mode logic.", 15 1A7 (io) "Normal-function A-bus I/O ports. See function table for normal-mode logic.", 16 1A8 (io) "Normal-function A-bus I/O ports. See function table for normal-mode logic.", 17 1A9 (io) "Normal-function A-bus I/O ports. See function table for normal-mode logic.", 54 1B9 (io) "Normal-function B-bus I/O ports. See function table for normal-mode logic.", 55 1B8 (io) "Normal-function B-bus I/O ports. See function table for normal-mode logic.", 56 1B7 (io) "Normal-function B-bus I/O ports. See function table for normal-mode logic.", 58 1B6 (io) "Normal-function B-bus I/O ports. See function table for normal-mode logic.", 59 1B5 (io) "Normal-function B-bus I/O ports. See function table for normal-mode logic.", 60 1B4 (io) "Normal-function B-bus I/O ports. See function table for normal-mode logic.", 61 1B3 (io) "Normal-function B-bus I/O ports. See function table for normal-mode logic.", 62 1B2 (io) "Normal-function B-bus I/O ports. See function table for normal-mode logic.", 63 1B1 (io) "Normal-function B-bus I/O ports. See function table for normal-mode logic.", 65 1~{OEBA} (in) "Normal-function output enables. See function table for normal-mode logic.", 66 1LEBA (in) "Normal-function latch enables. See function table for normal-mode logic", 67 1CLKBA (in) "Normal-function clock inputs. See function table for normal-mode logic."
part B pins: 20 2A1 (io) "Normal-function A-bus I/O ports. See function table for normal-mode logic.", 21 2A2 (io) "Normal-function A-bus I/O ports. See function table for normal-mode logic.", 22 2A3 (io) "Normal-function A-bus I/O ports. See function table for normal-mode logic.", 24 2A4 (io) "Normal-function A-bus I/O ports. See function table for normal-mode logic.", 25 2A5 (io) "Normal-function A-bus I/O ports. See function table for normal-mode logic.", 26 2A6 (io) "Normal-function A-bus I/O ports. See function table for normal-mode logic.", 27 2A7 (io) "Normal-function A-bus I/O ports. See function table for normal-mode logic.", 28 2A8 (io) "Normal-function A-bus I/O ports. See function table for normal-mode logic.", 29 2A9 (io) "Normal-function A-bus I/O ports. See function table for normal-mode logic.", 31 2~{OEAB} (in) "Normal-function output enables. See function table for normal-mode logic.", 32 2LEAB (in) "Normal-function latch enables. See function table for normal-mode logic", 33 2CLKAB (in) "Normal-function clock inputs. See function table for normal-mode logic.", 38 2CLKBA (in) "Normal-function clock inputs. See function table for normal-mode logic.", 39 2LEBA (in) "Normal-function latch enables. See function table for normal-mode logic", 41 2~{OEBA} (in) "Normal-function output enables. See function table for normal-mode logic.", 42 2B9 (io) "Normal-function B-bus I/O ports. See function table for normal-mode logic.", 43 2B8 (io) "Normal-function B-bus I/O ports. See function table for normal-mode logic.", 44 2B7 (io) "Normal-function B-bus I/O ports. See function table for normal-mode logic.", 45 2B6 (io) "Normal-function B-bus I/O ports. See function table for normal-mode logic.", 46 2B5 (io) "Normal-function B-bus I/O ports. See function table for normal-mode logic.", 48 2B4 (io) "Normal-function B-bus I/O ports. See function table for normal-mode logic.", 49 2B3 (io) "Normal-function B-bus I/O ports. See function table for normal-mode logic.", 50 2B2 (io) "Normal-function B-bus I/O ports. See function table for normal-mode logic.", 51 2B1 (io) "Normal-function B-bus I/O ports. See function table for normal-mode logic."
part C pins: 3 TDO (hiz) "Test data output. One of four pins required by IEEE Standard 1149.1-1990. TDO is the serial output for shifting data through the instruction register or selected data register.", 34 TDI (in) "Test data input. One of four pins required by IEEE Standard 1149.1-1990. TDI is the serial input for shifting data through the instruction register or selected data register. An internal pullup forces TDI to a high level if (See Datasheet)", 37 TCK (in) "Test clock. One of four pins required by IEEE Standard 1149.1-1990. Test operations of the device are synchronous to TCK. Data is captured on the rising edge of TCK and outputs change on the falling edge of TCK", 68 TMS (in) "Test mode select. One of four pins required by IEEE Standard 1149.1-1990. TMS directs the device through its TAP controller states. An internal pullup forces TMS to a high level if left unconnected."
part D pins: 2 VCC (power) "Supply voltage", 6 GND (power) "Ground", 13 GND (power) "Ground", 19 VCC (power) "Supply voltage", 23 GND (power) "Ground", 30 GND (power) "Ground", 36 VCC (power) "Supply voltage", 40 GND (power) "Ground", 47 GND (power) "Ground", 53 VCC (power) "Supply voltage", 57 GND (power) "Ground", 64 GND (power) "Ground"
part E pins: 1 NC "No internal connection", 18 NC "No internal connection", 35 NC "No internal connection", 52 NC "No internal connection"

## SNJ54S85FK
designator U?
4-Bit Magnitude Comparators, FK0020A, TUBE; Generic Part Number: SN54S85; Manufacturer: Texas Instruments; PartNumber: SNJ54S85FK; VCC(Min)(V): 4.75; VCC(Max)(V): 5.25; Output Type: TTL; ICC @ Nom Voltage(Max)(mA): 110; Bits(#): 4; Rating: Military; Technology Family: S; Output Drive (IOL/IOH)(Max)(mA): 20/-1; tpd @ Nom Voltage(Max)(ns): 18; DatasheetVersion: SDLS123; PackageReference: FK0020A; Input Type: TTL; Operating Temperature Range(C): -55 to 125; Code_JEDEC: MS-004; ComponentLink1Description: Manufacturer URL; ComponentLink1URL: http://www.ti.com/; ComponentLink2Description: Datasheet; ComponentLink2URL: http://www.ti.com/lit/ds/symlink/sn54s85.pdf; ComponentLink3Description: Package Specification; ComponentLink3URL: http://www.ti.com/lit/ml/mlcc006d/mlcc006d.pdf
footprint FK0020A_N (LCC, 20-Leads, Body 8.9x8.9mm, Pitch 1.27mm, IPC Medium Density)
footprint FK0020A_M (LCC, 20-Leads, Body 8.9x8.9mm, Pitch 1.27mm, IPC Low Density)
footprint FK0020A_L (LCC, 20-Leads, Body 8.9x8.9mm, Pitch 1.27mm, IPC High Density)
pins: 1 NC, 2 B3 (in), 3 A<BIN (in), 4 A=BIN (in), 5 A>BIN (in), 6 NC, 7 A>BOUT (out), 8 A=BOUT (out), 9 A<BOUT (out), 10 GND (power), 11 NC, 12 B0 (in), 13 A0 (in), 14 B1 (in), 15 A1 (in), 16 NC, 17 A2 (in), 18 B2 (in), 19 A3 (in), 20 VCC (power)

## SNJ54S85J
designator U?
4-Bit Magnitude Comparators, J0016A, TUBE; Generic Part Number: SN54S85; Manufacturer: Texas Instruments; PartNumber: SNJ54S85J; VCC(Min)(V): 4.75; VCC(Max)(V): 5.25; Output Type: TTL; ICC @ Nom Voltage(Max)(mA): 110; Bits(#): 4; Rating: Military; Technology Family: S; Output Drive (IOL/IOH)(Max)(mA): 20/-1; tpd @ Nom Voltage(Max)(ns): 18; DatasheetVersion: SDLS123; PackageReference: J0016A; Input Type: TTL; Operating Temperature Range(C): -55 to 125; ComponentLink1Description: Manufacturer URL; ComponentLink1URL: http://www.ti.com/; ComponentLink2Description: Datasheet; ComponentLink2URL: http://www.ti.com/lit/ds/symlink/sn54s85.pdf
footprint J0016A (DIP, 16-Leads, Body 21.35x7.2mm, Pitch 2.54mm)
pins: 1 B3 (in), 2 A<BIN (in), 3 A=BIN (in), 4 A>BIN (in), 5 A>BOUT (out), 6 A=BOUT (out), 7 A<BOUT (out), 8 GND (power), 9 B0 (in), 10 A0 (in), 11 B1 (in), 12 A1 (in), 13 A2 (in), 14 B2 (in), 15 A3 (in), 16 VCC (power)

## SNJ54S85W
designator U?
4-Bit Magnitude Comparators, W0016A, TUBE; Generic Part Number: SN54S85; Manufacturer: Texas Instruments; PartNumber: SNJ54S85W; VCC(Min)(V): 4.75; VCC(Max)(V): 5.25; Output Type: TTL; ICC @ Nom Voltage(Max)(mA): 110; Bits(#): 4; Rating: Military; Technology Family: S; Output Drive (IOL/IOH)(Max)(mA): 20/-1; tpd @ Nom Voltage(Max)(ns): 18; DatasheetVersion: SDLS123; PackageReference: W0016A; Input Type: TTL; Operating Temperature Range(C): -55 to 125; ComponentLink1Description: Manufacturer URL; ComponentLink1URL: http://www.ti.com/; ComponentLink2Description: Datasheet; ComponentLink2URL: http://www.ti.com/lit/ds/symlink/sn54s85.pdf
footprint W0016A_N (CFP, 16-Leads, Body 10.92x7.24mm, Pitch 1.27mm, IPC Medium Density)
footprint W0016A_M (CFP, 16-Leads, Body 10.92x7.24mm, Pitch 1.27mm, IPC Low Density)
footprint W0016A_L (CFP, 16-Leads, Body 10.92x7.24mm, Pitch 1.27mm, IPC High Density)
pins: 1 B3 (in), 2 A<BIN (in), 3 A=BIN (in), 4 A>BIN (in), 5 A>BOUT (out), 6 A=BOUT (out), 7 A<BOUT (out), 8 GND (power), 9 B0 (in), 10 A0 (in), 11 B1 (in), 12 A1 (in), 13 A2 (in), 14 B2 (in), 15 A3 (in), 16 VCC (power)

## SNJ54S124J
designator U?
Dual Voltage-Controlled Oscillators, J0016A, TUBE; Generic Part Number: SN54S124; Manufacturer: Texas Instruments; PartNumber: SNJ54S124J; VCC(Min)(V): 4.75; VCC(Max)(V): 5.25; Output Type: TTL; ICC @ Nom Voltage(Max)(mA): 150; Bits(#): 1; Rating: Military; Technology Family: S; Voltage(Nom)(V): 5; Schmitt Trigger: No; Output Drive (IOL/IOH)(Max)(mA): 20/-1; tpd @ Nom Voltage(Max)(ns): 70; DatasheetVersion: SDLS201A; PackageReference: J0016A; Input Type: TTL; Operating Temperature Range(C): -55 to 125; ComponentLink1Description: Manufacturer URL; ComponentLink1URL: http://www.ti.com/; ComponentLink2Description: Datasheet; ComponentLink2URL: http://www.ti.com/lit/ds/symlink/sn54s124.pdf
footprint J0016A (DIP, 16-Leads, Body 21.35x7.2mm, Pitch 2.54mm)
part A pins: 2 1FC (in), 3 1RNG (in), 4 1CX1, 5 1CX2, 6 1~{EN} (in), 7 1Y (out)
part B pins: 1 2FC (in), 10 2Y (out), 11 2~{EN} (in), 12 2CX2, 13 2CX1, 14 2RNG (in)
part C pins: 8 OSC GND (power), 9 GND (power), 15 OSC VCC (power), 16 VCC (power)

## SNJ54S124W
designator U?
Dual Voltage-Controlled Oscillators, W0016A, TUBE; Generic Part Number: SN54S124; Manufacturer: Texas Instruments; PartNumber: SNJ54S124W; VCC(Min)(V): 4.75; VCC(Max)(V): 5.25; Output Type: TTL; ICC @ Nom Voltage(Max)(mA): 150; Bits(#): 1; Rating: Military; Technology Family: S; Voltage(Nom)(V): 5; Schmitt Trigger: No; Output Drive (IOL/IOH)(Max)(mA): 20/-1; tpd @ Nom Voltage(Max)(ns): 70; DatasheetVersion: SDLS201A; PackageReference: W0016A; Input Type: TTL; Operating Temperature Range(C): -55 to 125; ComponentLink1Description: Manufacturer URL; ComponentLink1URL: http://www.ti.com/; ComponentLink2Description: Datasheet; ComponentLink2URL: http://www.ti.com/lit/ds/symlink/sn54s124.pdf
footprint W0016A_N (CFP, 16-Leads, Body 10.92x7.24mm, Pitch 1.27mm, IPC Medium Density)
footprint W0016A_M (CFP, 16-Leads, Body 10.92x7.24mm, Pitch 1.27mm, IPC Low Density)
footprint W0016A_L (CFP, 16-Leads, Body 10.92x7.24mm, Pitch 1.27mm, IPC High Density)
part A pins: 2 1FC (in), 3 1RNG (in), 4 1CX1, 5 1CX2, 6 1~{EN} (in), 7 1Y (out)
part B pins: 1 2FC (in), 10 2Y (out), 11 2~{EN} (in), 12 2CX2, 13 2CX1, 14 2RNG (in)
part C pins: 8 OSC GND (power), 9 GND (power), 15 OSC VCC (power), 16 VCC (power)

## SNJ54S138FK
designator U?
3-Line To 8-Line Decoders/Demultiplexers, FK0020A, TUBE; Generic Part Number: SN54S138; Manufacturer: Texas Instruments; PartNumber: SNJ54S138FK; Rating: Military; Technology Family: S; Schmitt Trigger: No; DatasheetVersion: SDLS014; PackageReference: FK0020A; Operating Temperature Range(C): -55 to 125; Code_JEDEC: MS-004; ComponentLink1Description: Manufacturer URL; ComponentLink1URL: http://www.ti.com/; ComponentLink2Description: Datasheet; ComponentLink2URL: http://www.ti.com/lit/ds/symlink/sn54s138.pdf; ComponentLink3Description: Package Specification; ComponentLink3URL: http://www.ti.com/lit/ml/mlcc006d/mlcc006d.pdf
footprint FK0020A_N (LCC, 20-Leads, Body 8.9x8.9mm, Pitch 1.27mm, IPC Medium Density)
footprint FK0020A_M (LCC, 20-Leads, Body 8.9x8.9mm, Pitch 1.27mm, IPC Low Density)
footprint FK0020A_L (LCC, 20-Leads, Body 8.9x8.9mm, Pitch 1.27mm, IPC High Density)
part A pins: 2 A (in), 3 B (in), 4 C (in), 5 ~{G}2A (in), 7 ~{G}2B (in), 8 G1 (in), 9 ~{Y7} (out), 10 GND (power), 12 ~{Y6} (out), 13 ~{Y5} (out), 14 ~{Y4} (out), 15 ~{Y3} (out), 17 ~{Y2} (out), 18 ~{Y1} (out), 19 ~{Y0} (out), 20 VCC (power)
part B pins: 1 NC, 6 NC, 11 NC, 16 NC

## SNJ54S138J
designator U?
3-Line To 8-Line Decoders/Demultiplexers, J0016A, TUBE; Generic Part Number: SN54S138; Manufacturer: Texas Instruments; PartNumber: SNJ54S138J; Rating: Military; Technology Family: S; Schmitt Trigger: No; DatasheetVersion: SDLS014; PackageReference: J0016A; Operating Temperature Range(C): -55 to 125; ComponentLink1Description: Manufacturer URL; ComponentLink1URL: http://www.ti.com/; ComponentLink2Description: Datasheet; ComponentLink2URL: http://www.ti.com/lit/ds/symlink/sn54s138.pdf; ComponentLink3Description: Package Specification; ComponentLink3URL: http://www.ti.com/lit/ml/mcer002d/mcer002d.pdf
footprint J0016A (DIP, 16-Leads, Body 21.35x7.2mm, Pitch 2.54mm)
pins: 1 A (in), 2 B (in), 3 C (in), 4 ~{G}2A (in), 5 ~{G}2B (in), 6 G1 (in), 7 ~{Y7} (out), 8 GND (power), 9 ~{Y6} (out), 10 ~{Y5} (out), 11 ~{Y4} (out), 12 ~{Y3} (out), 13 ~{Y2} (out), 14 ~{Y1} (out), 15 ~{Y0} (out), 16 VCC (power)

## SNJ54S138W
designator U?
3-Line To 8-Line Decoders/Demultiplexers, W0016A, TUBE; Generic Part Number: SN54S138; Manufacturer: Texas Instruments; PartNumber: SNJ54S138W; Rating: Military; Technology Family: S; Schmitt Trigger: No; DatasheetVersion: SDLS014; PackageReference: W0016A; Operating Temperature Range(C): -55 to 125; ComponentLink1Description: Manufacturer URL; ComponentLink1URL: http://www.ti.com/; ComponentLink2Description: Datasheet; ComponentLink2URL: http://www.ti.com/lit/ds/symlink/sn54s138.pdf; ComponentLink3Description: Package Specification; ComponentLink3URL: http://www.ti.com/lit/ml/mcfp004c/mcfp004c.pdf
footprint W0016A_N (CFP, 16-Leads, Body 10.92x7.24mm, Pitch 1.27mm, IPC Medium Density)
footprint W0016A_M (CFP, 16-Leads, Body 10.92x7.24mm, Pitch 1.27mm, IPC Low Density)
footprint W0016A_L (CFP, 16-Leads, Body 10.92x7.24mm, Pitch 1.27mm, IPC High Density)
pins: 1 A (in), 2 B (in), 3 C (in), 4 ~{G}2A (in), 5 ~{G}2B (in), 6 G1 (in), 7 ~{Y7} (out), 8 GND (power), 9 ~{Y6} (out), 10 ~{Y5} (out), 11 ~{Y4} (out), 12 ~{Y3} (out), 13 ~{Y2} (out), 14 ~{Y1} (out), 15 ~{Y0} (out), 16 VCC (power)

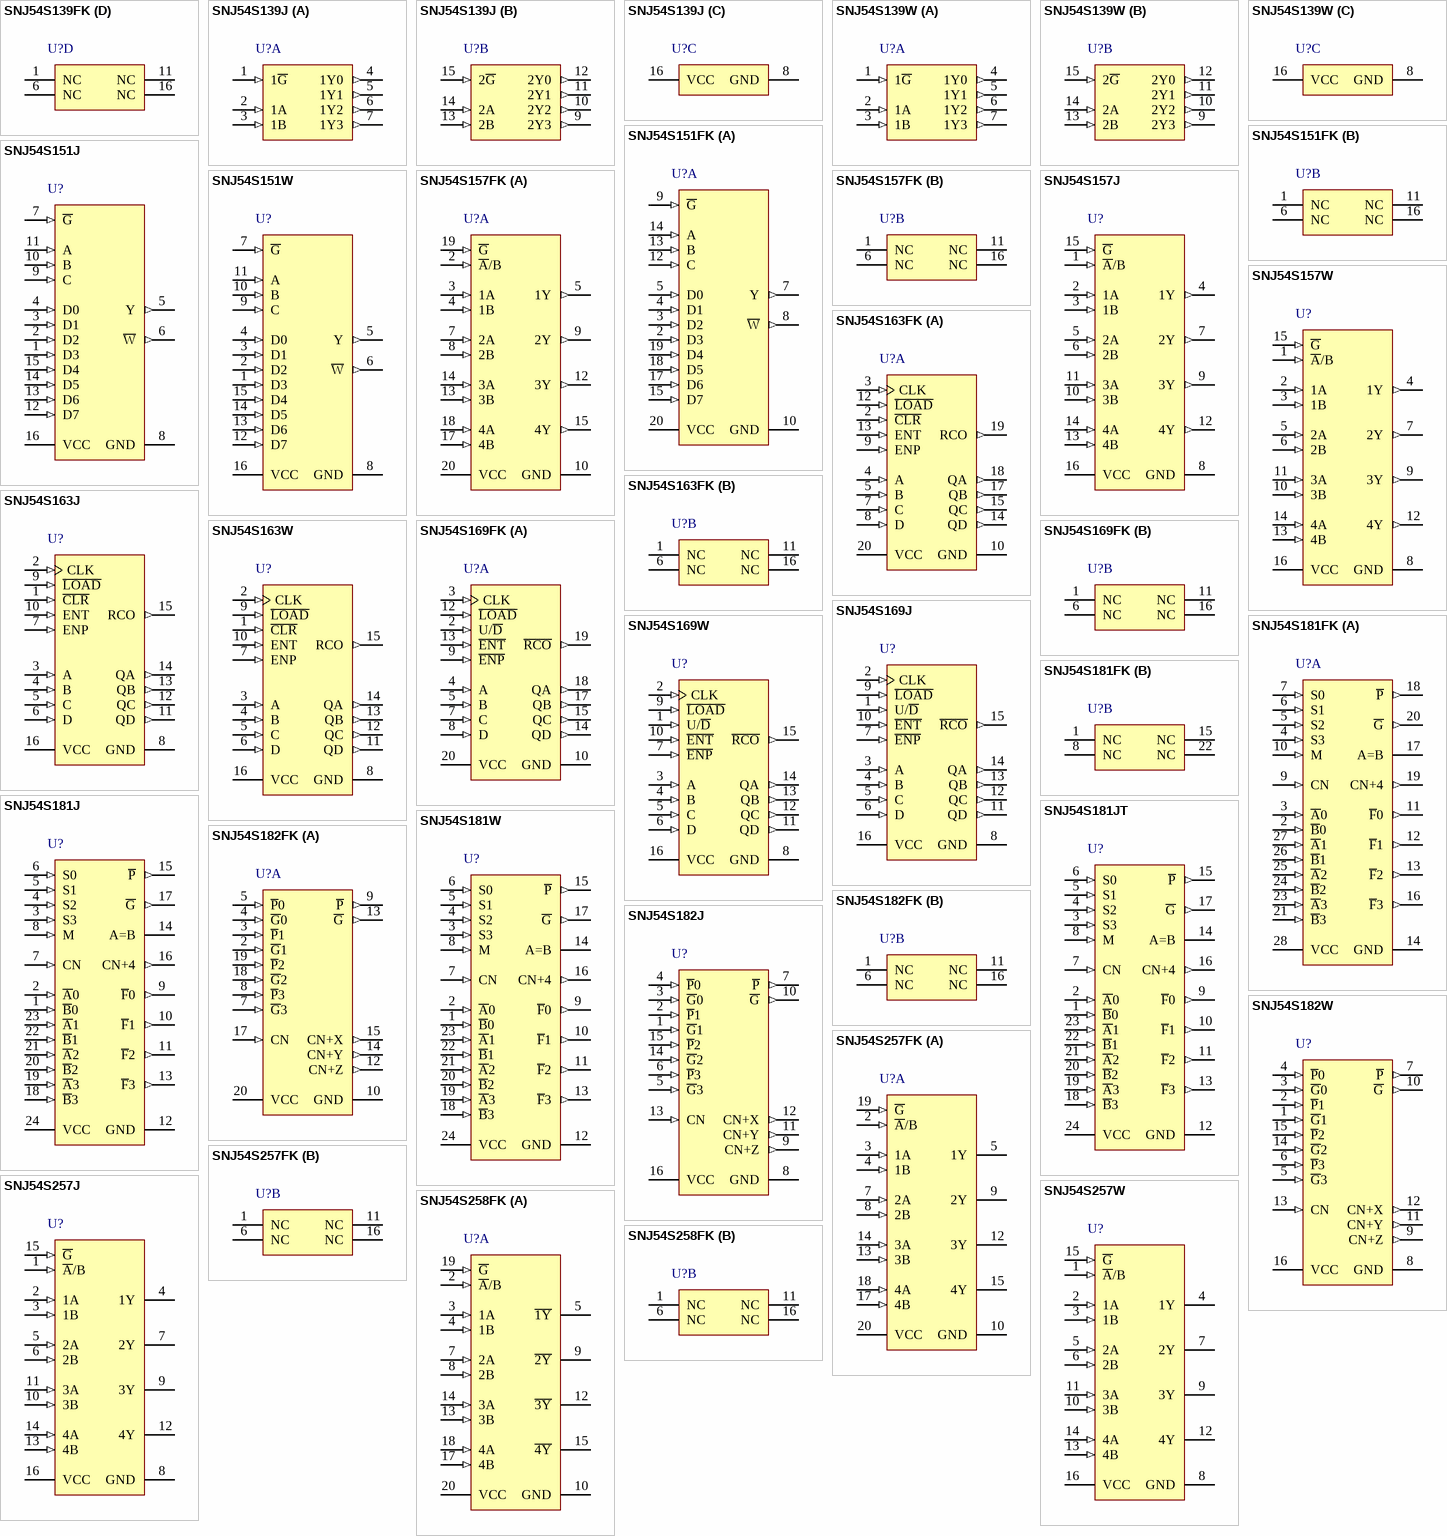
[diagram p99: symbols SNJ54S139FK to SNJ54S258FK]

## SNJ54S139FK
designator U?
Dual 2-Line To 4-Line Decoders/Demultiplexers, FK0020A, TUBE; Generic Part Number: SN54S139; Manufacturer: Texas Instruments; PartNumber: SNJ54S139FK; Rating: Military; Technology Family: S; Schmitt Trigger: No; DatasheetVersion: SDLS013A; PackageReference: FK0020A; Operating Temperature Range(C): -55 to 125; Code_JEDEC: MS-004; ComponentLink1Description: Manufacturer URL; ComponentLink1URL: http://www.ti.com/; ComponentLink2Description: Datasheet; ComponentLink2URL: http://www.ti.com/lit/ds/symlink/sn54s139.pdf; ComponentLink3Description: Package Specification; ComponentLink3URL: http://www.ti.com/lit/ml/mlcc006d/mlcc006d.pdf
footprint FK0020A_N (LCC, 20-Leads, Body 8.9x8.9mm, Pitch 1.27mm, IPC Medium Density)
footprint FK0020A_M (LCC, 20-Leads, Body 8.9x8.9mm, Pitch 1.27mm, IPC Low Density)
footprint FK0020A_L (LCC, 20-Leads, Body 8.9x8.9mm, Pitch 1.27mm, IPC High Density)
part A pins: 2 1~{G} (in), 3 1A (in), 4 1B (in), 5 1Y0 (out), 7 1Y1 (out), 8 1Y2 (out), 9 1Y3 (out)
part B pins: 12 2Y3 (out), 13 2Y2 (out), 14 2Y1 (out), 15 2Y0 (out), 17 2B (in), 18 2A (in), 19 2~{G} (in)
part C pins: 10 GND (power), 20 VCC (power)
part D pins: 1 NC, 6 NC, 11 NC, 16 NC

## SNJ54S139J
designator U?
Dual 2-Line To 4-Line Decoders/Demultiplexers, J0016A, TUBE; Generic Part Number: SN54S139; Manufacturer: Texas Instruments; PartNumber: SNJ54S139J; Rating: Military; Technology Family: S; Schmitt Trigger: No; DatasheetVersion: SDLS013A; PackageReference: J0016A; Operating Temperature Range(C): -55 to 125; ComponentLink1Description: Manufacturer URL; ComponentLink1URL: http://www.ti.com/; ComponentLink2Description: Datasheet; ComponentLink2URL: http://www.ti.com/lit/ds/symlink/sn54s139.pdf; ComponentLink3Description: Package Specification; ComponentLink3URL: http://www.ti.com/lit/ml/mcer002d/mcer002d.pdf
footprint J0016A (DIP, 16-Leads, Body 21.35x7.2mm, Pitch 2.54mm)
part A pins: 1 1~{G} (in), 2 1A (in), 3 1B (in), 4 1Y0 (out), 5 1Y1 (out), 6 1Y2 (out), 7 1Y3 (out)
part B pins: 9 2Y3 (out), 10 2Y2 (out), 11 2Y1 (out), 12 2Y0 (out), 13 2B (in), 14 2A (in), 15 2~{G} (in)
part C pins: 8 GND (power), 16 VCC (power)

## SNJ54S139W
designator U?
Dual 2-Line To 4-Line Decoders/Demultiplexers, W0016A, TUBE; Generic Part Number: SN54S139; Manufacturer: Texas Instruments; PartNumber: SNJ54S139W; Rating: Military; Technology Family: S; Schmitt Trigger: No; DatasheetVersion: SDLS013A; PackageReference: W0016A; Operating Temperature Range(C): -55 to 125; ComponentLink1Description: Manufacturer URL; ComponentLink1URL: http://www.ti.com/; ComponentLink2Description: Datasheet; ComponentLink2URL: http://www.ti.com/lit/ds/symlink/sn54s139.pdf; ComponentLink3Description: Package Specification; ComponentLink3URL: http://www.ti.com/lit/ml/mcfp004c/mcfp004c.pdf
footprint W0016A_N (CFP, 16-Leads, Body 10.92x7.24mm, Pitch 1.27mm, IPC Medium Density)
footprint W0016A_M (CFP, 16-Leads, Body 10.92x7.24mm, Pitch 1.27mm, IPC Low Density)
footprint W0016A_L (CFP, 16-Leads, Body 10.92x7.24mm, Pitch 1.27mm, IPC High Density)
part A pins: 1 1~{G} (in), 2 1A (in), 3 1B (in), 4 1Y0 (out), 5 1Y1 (out), 6 1Y2 (out), 7 1Y3 (out)
part B pins: 9 2Y3 (out), 10 2Y2 (out), 11 2Y1 (out), 12 2Y0 (out), 13 2B (in), 14 2A (in), 15 2~{G} (in)
part C pins: 8 GND (power), 16 VCC (power)

## SNJ54S151FK
designator U?
Data Selectors/Multiplexers, FK0020A, TUBE; Generic Part Number: SN54S151; Manufacturer: Texas Instruments; PartNumber: SNJ54S151FK; VCC(Min)(V): 4.5; VCC(Max)(V): 5.5; Rating: Military; Technology Family: S; Schmitt Trigger: No; DatasheetVersion: SDLS054; PackageReference: FK0020A; Operating Temperature Range(C): -55 to 125; Code_JEDEC: MS-004; ComponentLink1Description: Manufacturer URL; ComponentLink1URL: http://www.ti.com/; ComponentLink2Description: Datasheet; ComponentLink2URL: http://www.ti.com/lit/ds/symlink/sn54s151.pdf; ComponentLink3Description: Package Specification; ComponentLink3URL: http://www.ti.com/lit/ml/mlcc006d/mlcc006d.pdf
footprint FK0020A_N (LCC, 20-Leads, Body 8.9x8.9mm, Pitch 1.27mm, IPC Medium Density)
footprint FK0020A_M (LCC, 20-Leads, Body 8.9x8.9mm, Pitch 1.27mm, IPC Low Density)
footprint FK0020A_L (LCC, 20-Leads, Body 8.9x8.9mm, Pitch 1.27mm, IPC High Density)
part A pins: 2 D3 (in), 3 D2 (in), 4 D1 (in), 5 D0 (in), 7 Y (out), 8 ~{W} (out), 9 ~{G} (in), 10 GND (power), 12 C (in), 13 B (in), 14 A (in), 15 D7 (in), 17 D6 (in), 18 D5 (in), 19 D4 (in), 20 VCC (power)
part B pins: 1 NC, 6 NC, 11 NC, 16 NC

## SNJ54S151J
designator U?
Data Selectors/Multiplexers, J0016A, TUBE; Generic Part Number: SN54S151; Manufacturer: Texas Instruments; PartNumber: SNJ54S151J; VCC(Min)(V): 4.5; VCC(Max)(V): 5.5; Rating: Military; Technology Family: S; Schmitt Trigger: No; DatasheetVersion: SDLS054; PackageReference: J0016A; Operating Temperature Range(C): -55 to 125; ComponentLink1Description: Manufacturer URL; ComponentLink1URL: http://www.ti.com/; ComponentLink2Description: Datasheet; ComponentLink2URL: http://www.ti.com/lit/ds/symlink/sn54s151.pdf; ComponentLink3Description: Package Specification; ComponentLink3URL: http://www.ti.com/lit/ml/mcer002d/mcer002d.pdf
footprint J0016A (DIP, 16-Leads, Body 21.35x7.2mm, Pitch 2.54mm)
pins: 1 D3 (in), 2 D2 (in), 3 D1 (in), 4 D0 (in), 5 Y (out), 6 ~{W} (out), 7 ~{G} (in), 8 GND (power), 9 C (in), 10 B (in), 11 A (in), 12 D7 (in), 13 D6 (in), 14 D5 (in), 15 D4 (in), 16 VCC (power)

## SNJ54S151W
designator U?
Data Selectors/Multiplexers, W0016A, TUBE; Generic Part Number: SN54S151; Manufacturer: Texas Instruments; PartNumber: SNJ54S151W; VCC(Min)(V): 4.5; VCC(Max)(V): 5.5; Rating: Military; Technology Family: S; Schmitt Trigger: No; DatasheetVersion: SDLS054; PackageReference: W0016A; Operating Temperature Range(C): -55 to 125; ComponentLink1Description: Manufacturer URL; ComponentLink1URL: http://www.ti.com/; ComponentLink2Description: Datasheet; ComponentLink2URL: http://www.ti.com/lit/ds/symlink/sn54s151.pdf; ComponentLink3Description: Package Specification; ComponentLink3URL: http://www.ti.com/lit/ml/mcfp004c/mcfp004c.pdf
footprint W0016A_N (CFP, 16-Leads, Body 10.92x7.24mm, Pitch 1.27mm, IPC Medium Density)
footprint W0016A_M (CFP, 16-Leads, Body 10.92x7.24mm, Pitch 1.27mm, IPC Low Density)
footprint W0016A_L (CFP, 16-Leads, Body 10.92x7.24mm, Pitch 1.27mm, IPC High Density)
pins: 1 D3 (in), 2 D2 (in), 3 D1 (in), 4 D0 (in), 5 Y (out), 6 ~{W} (out), 7 ~{G} (in), 8 GND (power), 9 C (in), 10 B (in), 11 A (in), 12 D7 (in), 13 D6 (in), 14 D5 (in), 15 D4 (in), 16 VCC (power)

## SNJ54S157FK
designator U?
Quadruple 2-Line To 1-Line Data Selectors/Multiplexers, FK0020A, TUBE; Generic Part Number: SN54S157; Manufacturer: Texas Instruments; PartNumber: SNJ54S157FK; VCC(Min)(V): 4.5; VCC(Max)(V): 5.5; Rating: Military; Technology Family: S; Schmitt Trigger: No; DatasheetVersion: SDLS058; PackageReference: FK0020A; Operating Temperature Range(C): -55 to 125; Code_JEDEC: MS-004; ComponentLink1Description: Manufacturer URL; ComponentLink1URL: http://www.ti.com/; ComponentLink2Description: Datasheet; ComponentLink2URL: http://www.ti.com/lit/ds/symlink/sn54s157.pdf; ComponentLink3Description: Package Specification; ComponentLink3URL: http://www.ti.com/lit/ml/mlcc006d/mlcc006d.pdf
footprint FK0020A_N (LCC, 20-Leads, Body 8.9x8.9mm, Pitch 1.27mm, IPC Medium Density)
footprint FK0020A_M (LCC, 20-Leads, Body 8.9x8.9mm, Pitch 1.27mm, IPC Low Density)
footprint FK0020A_L (LCC, 20-Leads, Body 8.9x8.9mm, Pitch 1.27mm, IPC High Density)
part A pins: 2 ~{A}/B (in), 3 1A (in), 4 1B (in), 5 1Y (out), 7 2A (in), 8 2B (in), 9 2Y (out), 10 GND (power), 12 3Y (out), 13 3B (in), 14 3A (in), 15 4Y (out), 17 4B (in), 18 4A (in), 19 ~{G} (in), 20 VCC (power)
part B pins: 1 NC, 6 NC, 11 NC, 16 NC

## SNJ54S157J
designator U?
Quadruple 2-Line To 1-Line Data Selectors/Multiplexers, J0016A, TUBE; Generic Part Number: SN54S157; Manufacturer: Texas Instruments; PartNumber: SNJ54S157J; VCC(Min)(V): 4.5; VCC(Max)(V): 5.5; Rating: Military; Technology Family: S; Schmitt Trigger: No; DatasheetVersion: SDLS058; PackageReference: J0016A; Operating Temperature Range(C): -55 to 125; ComponentLink1Description: Manufacturer URL; ComponentLink1URL: http://www.ti.com/; ComponentLink2Description: Datasheet; ComponentLink2URL: http://www.ti.com/lit/ds/symlink/sn54s157.pdf; ComponentLink3Description: Package Specification; ComponentLink3URL: http://www.ti.com/lit/ml/mcer002d/mcer002d.pdf
footprint J0016A (DIP, 16-Leads, Body 21.35x7.2mm, Pitch 2.54mm)
pins: 1 ~{A}/B (in), 2 1A (in), 3 1B (in), 4 1Y (out), 5 2A (in), 6 2B (in), 7 2Y (out), 8 GND (power), 9 3Y (out), 10 3B (in), 11 3A (in), 12 4Y (out), 13 4B (in), 14 4A (in), 15 ~{G} (in), 16 VCC (power)

## SNJ54S157W
designator U?
Quadruple 2-Line To 1-Line Data Selectors/Multiplexers, W0016A, TUBE; Generic Part Number: SN54S157; Manufacturer: Texas Instruments; PartNumber: SNJ54S157W; VCC(Min)(V): 4.5; VCC(Max)(V): 5.5; Rating: Military; Technology Family: S; Schmitt Trigger: No; DatasheetVersion: SDLS058; PackageReference: W0016A; Operating Temperature Range(C): -55 to 125; ComponentLink1Description: Manufacturer URL; ComponentLink1URL: http://www.ti.com/; ComponentLink2Description: Datasheet; ComponentLink2URL: http://www.ti.com/lit/ds/symlink/sn54s157.pdf; ComponentLink3Description: Package Specification; ComponentLink3URL: http://www.ti.com/lit/ml/mcfp004c/mcfp004c.pdf
footprint W0016A_N (CFP, 16-Leads, Body 10.92x7.24mm, Pitch 1.27mm, IPC Medium Density)
footprint W0016A_M (CFP, 16-Leads, Body 10.92x7.24mm, Pitch 1.27mm, IPC Low Density)
footprint W0016A_L (CFP, 16-Leads, Body 10.92x7.24mm, Pitch 1.27mm, IPC High Density)
pins: 1 ~{A}/B (in), 2 1A (in), 3 1B (in), 4 1Y (out), 5 2A (in), 6 2B (in), 7 2Y (out), 8 GND (power), 9 3Y (out), 10 3B (in), 11 3A (in), 12 4Y (out), 13 4B (in), 14 4A (in), 15 ~{G} (in), 16 VCC (power)